# Altium footprint library 2009_01_27_Thomas_Schmid_Epic_Plus.PcbLib: 21 footprints (part 1 of 2)
Each footprint in its own frame and in the unit in brackets; x right, y up, seen from the top. Pads: shape width x height; smd on the part's side, far side on the other; paste and mask are expansions set on the pad; w line width, h text height; cw(c..) or ccw(c..) is an arc to the next point about the centre after c.
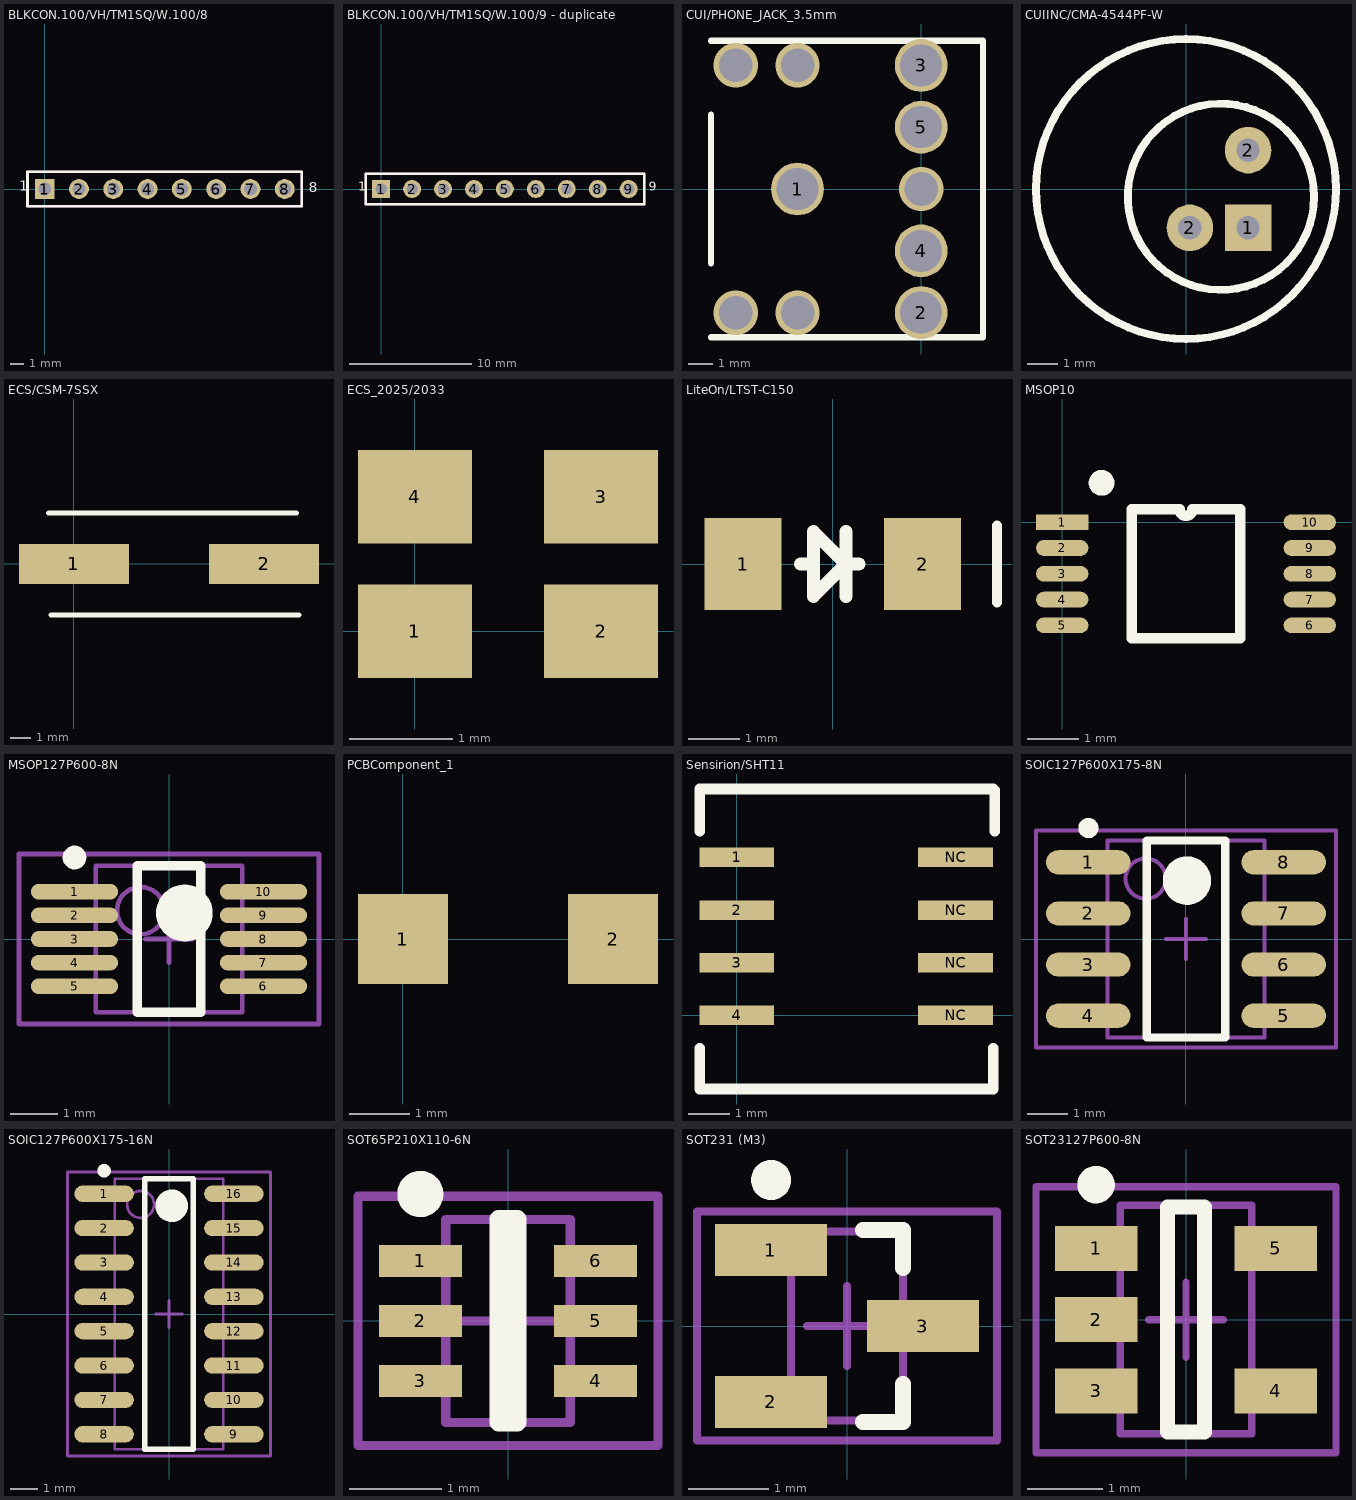
[diagram p0: the footprints below, top view; thin cyan lines are the x and y axes]

## BLKCON.100/VH/TM1SQ/W.100/8 [mil]
pads (8):
  rect 58x58 / inner round 60 / far side rect 58x58 hole 37: 1(0,0)
  round 58 / inner round 60 / far side round 58 hole 37: 2(100,0) 3(200,0) 4(300,0) 5(400,0) 6(500,0) 7(600,0) 8(700,0)
Top Overlay:
  lines w8: -50,-50 -50,50 750,50 750,-50 -50,-50
  text "8" at 770,-10 h30
  text "1" at -75,-5 h30
Mechanical 1:
  lines w8: -50,-50 -50,50 750,50 750,-50 -50,-50

## BLKCON.100/VH/TM1SQ/W.100/9 - duplicate [mil]
pads (9):
  rect 58x58 / inner round 60 / far side rect 58x58 hole 37: 1(0,0)
  round 58 / inner round 60 / far side round 58 hole 37: 2(100,0) 3(200,0) 4(300,0) 5(400,0) 6(500,0) 7(600,0) 8(700,0) 9(800,0)
Top Overlay:
  lines w8: -50,-50 -50,50 850,50 850,-50 -50,-50
  text "9" at 865,-5 h30
  text "1" at -75,-5 h30
Mechanical 1:
  lines w8: -50,-50 -50,50 850,50 850,-50 -50,-50

## CUI/PHONE_JACK_3.5mm [mil] "3.5mm Audio Jack Stereo"
height 196.85
pads (5):
  round 84 hole 67: 1(-196.85,0) 2(0,-196.85) 3(0,196.85) 4(0,-98.43) 5(0,98.43)
via -295.28,196.85 diameter 70.5 hole 53.5
via -295.28,-196.85 diameter 70.5 hole 53.5
via -196.85,196.85 diameter 70.5 hole 53.5
via -196.85,-196.85 diameter 70.5 hole 53.5
via 0,0 diameter 70.5 hole 53.5
Top Overlay:
  lines w10: -334.65,-236.22 98.43,-236.22 98.43,236.22 -334.65,236.22 ; -334.65,-118.11 -334.65,118.11

## CUIINC/CMA-4544PF-W [mil] "Microphone"
height 177.17
pads (3):
  rect 60x60 hole 30: 1(80,-50)
  round 60 hole 30: 2(5,-50) 2(80,50)
Top Overlay:
  circle w10: c0,0 r193.27
  circle w10: c45,-10 r120

## ECS/CSM-7SSX [mm] "Low Profile SMD Crystal from ECS"
height 2.6
pads (2):
  rect 5.5x2 smd: 1(0,0) 2(9.5,0)
Top Overlay:
  lines w0.254: -1.27,2.54 11.13,2.54 ; -1.143,-2.54 11.257,-2.54

## ECS_2025/2033 [mm] "ECS SMD Clock Oscillator, 2.5x2.0mm"
height 1
pads (4):
  rect 1.1x0.9 smd: 1(0,0) 2(1.8,0) 3(1.8,1.3) 4(0,1.3)

## LiteOn/LTST-C150 [mm] "SMT LED; 2 Flat Leads"
height 1.1
pads (2):
  rect 1.5x1.8 smd: 1(-1.75,0) 2(1.75,0)
Top Overlay:
  lines w0.2: 3.2,-0.75 3.2,0.75
  lines w0.254: -0.635,0 -0.508,0 ; 0.254,-0.635 0.254,0.635 ; 0.508,0 0.254,0 ; 0.254,0 -0.381,0.635 -0.381,-0.635 0.254,0

## MSOP10 [mil] "for Micrel LMV982"
height 1
pads (10):
  rect 40x12 smd: 1(0,0)
  oval 40x12 smd: 2(0,-19.7) 3(0,-39.4) 4(0,-59.1) 5(0,-78.8) 6(189,-78.8) 7(189,-59.1) 8(189,-39.4) 9(189,-19.7) 10(189,0)
Top Overlay:
  circle w9.84: c30.08,30 r4.92
  lines w8: 53,-88.65 53,9.85 89.58,9.85 ccw(c94.5,9.85) 99.42,9.85 136,9.85 136,-88.65 53,-88.65

## MSOP127P600-8N [mm] "For AD SSM2167"
height 1.1
pads (10):
  oval 1.85x0.332 smd: 1(-2,1) 2(-2,0.5) 3(-2,0) 4(-2,-0.5) 5(-2,-1) 6(2,-1) 7(2,-0.5) 8(2,0) 9(2,0.5) 10(2,1)
Top Overlay:
  circle w0.6: c0.325,0.55 r0.3
  circle w0.25: c-2,1.725 r0.125
  lines w0.2: -0.675,-1.55 0.675,-1.55 0.675,1.55 -0.675,1.55 -0.675,-1.55
Mechanical 13:
  circle w0.1: c-0.6,0.6 r0.5
  lines w0.1: -1.55,-1.55 1.55,-1.55 1.55,1.55 -1.55,1.55 -1.55,-1.55
Mechanical 15:
  lines w0.1: -0.5,0 0.5,0 ; 0,-0.5 0,0.5 ; -3.175,-1.8 3.175,-1.8 3.175,1.8 -3.175,1.8 -3.175,-1.8
3D body: height 1.1, standoff 0.05, extent -1.55,-1.55 1.55,1.55

## PCBComponent_1 [mm]
pads (2):
  rect 1.5x1.5 smd: 1(0,0) 2(3.5,0)

## Sensirion/SHT11 [mm] "Sensirion SHT11 footprint"
height 2.5
pads (8):
  rect 1.8x0.47 smd: 1(0,3.81) 2(0,2.54) 3(0,1.27) 4(0,0) NC(5.28,0) NC(5.28,1.27) NC(5.28,2.54) NC(5.28,3.81)
Top Overlay:
  lines w0.254: -0.889,-0.794 -0.889,-1.778 6.191,-1.778 6.191,-0.794 ; -0.889,4.445 -0.889,5.429 ; -0.889,5.461 6.191,5.461 ; 6.223,4.445 6.223,5.429

## SOIC127P600X175-8N [mm] "SOIC, 8-Leads, Body 4.9x3.9mm (max), Pitch 1.27mm, IPC Medium Density, for Microchip MCP6042"
height 1.75
pads (8):
  oval 2.1x0.6 smd: 1(-2.425,1.905) 2(-2.425,0.635) 3(-2.425,-0.635) 4(-2.425,-1.905) 5(2.425,-1.905) 6(2.425,-0.635) 7(2.425,0.635) 8(2.425,1.905)
Top Overlay:
  circle w0.6: c0.025,1.45 r0.3
  circle w0.25: c-2.425,2.755 r0.125
  lines w0.2: -0.975,-2.45 0.975,-2.45 0.975,2.45 -0.975,2.45 -0.975,-2.45
Mechanical 13:
  circle w0.1: c-1,1.5 r0.5
  lines w0.1: -1.95,-2.45 1.95,-2.45 1.95,2.45 -1.95,2.45 -1.95,-2.45
Mechanical 15:
  lines w0.1: -0.5,0 0.5,0 ; 0,-0.5 0,0.5 ; -3.725,-2.7 3.725,-2.7 3.725,2.7 -3.725,2.7 -3.725,-2.7
3D body: height 1.75, standoff 0.1, extent -1.95,-2.45 1.95,2.45

## SOIC127P600X175-16N [mm] "SOIC, 16-Leads, Body 10.0x4.0mm (max), Pitch 1.27mm, IPC Medium Density, AD5242"
height 1.75
pads (16):
  oval 2.2x0.6 smd: 1(-2.4,4.445) 2(-2.4,3.175) 3(-2.4,1.905) 4(-2.4,0.635) 5(-2.4,-0.635) 6(-2.4,-1.905) 7(-2.4,-3.175) 8(-2.4,-4.445) 9(2.4,-4.445) 10(2.4,-3.175) 11(2.4,-1.905) 12(2.4,-0.635) 13(2.4,0.635) 14(2.4,1.905) 15(2.4,3.175) 16(2.4,4.445)
Top Overlay:
  circle w0.6: c0.1,4 r0.3
  circle w0.25: c-2.4,5.295 r0.125
  lines w0.2: -0.9,-5 0.9,-5 0.9,5 -0.9,5 -0.9,-5
Mechanical 13:
  circle w0.1: c-1.05,4.05 r0.5
  lines w0.1: -2,-5 2,-5 2,5 -2,5 -2,-5
Mechanical 15:
  lines w0.1: -0.5,0 0.5,0 ; 0,-0.5 0,0.5 ; -3.75,-5.25 3.75,-5.25 3.75,5.25 -3.75,5.25 -3.75,-5.25
3D body: height 1.75, standoff 0.1, extent -2,-5 2,5

## SOT65P210X110-6N [mm] "SOT23, 6-Leads, Body 2.2x2.4mm (max), Pitch 0.65mm, IPC Medium Density, AD5247"
height 1.1
pads (6):
  rect 0.9x0.35 smd: 1(-0.95,0.65) 2(-0.95,0) 3(-0.95,-0.65) 4(0.95,-0.65) 5(0.95,0) 6(0.95,0.65)
Top Overlay:
  circle w0.25: c-0.95,1.375 r0.125
  lines w0.2: -0.1,-1.1 -0.1,1.1 0.1,1.1 0.1,-1.1 -0.1,-1.1
Mechanical 13:
  lines w0.1: -0.675,-1.1 0.675,-1.1 0.675,1.1 -0.675,1.1 -0.675,-1.1
Mechanical 15:
  lines w0.1: -0.5,0 0.5,0 ; 0,-0.5 0,0.5 ; -1.625,-1.35 1.625,-1.35 1.625,1.35 -1.625,1.35 -1.625,-1.35
3D body: height 1.1, standoff 0.05, extent -0.675,-1.1 0.675,1.1

## SOT231 (M3) [mm] "for Micrel LM4041"
height 1.15
pads (3):
  rect 1.4x0.65 smd: 1(-0.95,0.95) 2(-0.95,-0.95) 3(0.95,0)
Top Overlay:
  circle w0.25: c-0.95,1.825 r0.125
  lines w0.2: 0.2,-1.2 0.7,-1.2 0.7,-0.725 ; 0.2,1.2 0.7,1.2 0.7,0.725
Mechanical 13:
  lines w0.1: -0.7,-1.18 0.7,-1.18 0.7,1.18 -0.7,1.18 -0.7,-1.18
Mechanical 15:
  lines w0.1: -0.5,0 0.5,0 ; 0,-0.5 0,0.5 ; -1.875,-1.43 1.875,-1.43 1.875,1.43 -1.875,1.43 -1.875,-1.43
3D body: height 1.15, standoff 0.01, extent -0.7,-1.18 0.7,1.18

## SOT23127P600-8N [mm] "for TI LMV931 SOT-23-DBV package"
height 1.45
pads (5):
  rect 1.1x0.6 smd: 1(-1.2,0.95) 2(-1.2,0) 3(-1.2,-0.95) 4(1.2,-0.95) 5(1.2,0.95)
Top Overlay:
  circle w0.25: c-1.2,1.8 r0.125
  lines w0.2: -0.25,-1.5 0.25,-1.5 0.25,1.5 -0.25,1.5 -0.25,-1.5
Mechanical 13:
  lines w0.1: -0.875,-1.525 -0.875,1.525 0.875,1.525 0.875,-1.525 -0.875,-1.525
Mechanical 15:
  lines w0.1: -0.5,0 0.5,0 ; 0,-0.5 0,0.5 ; -2,-1.775 -2,1.775 2,1.775 2,-1.775 -2,-1.775
3D body: height 1.45, standoff 0, extent -0.875,-1.525 0.875,1.525